# Altium footprint library SOP50P490X110-10L30N.PcbLib: 1 footprints
Each footprint in its own frame and in the unit in brackets; x right, y up, seen from the top. Pads: shape width x height; smd on the part's side, far side on the other; paste and mask are expansions set on the pad; w line width, h text height; cw(c..) or ccw(c..) is an arc to the next point about the centre after c.
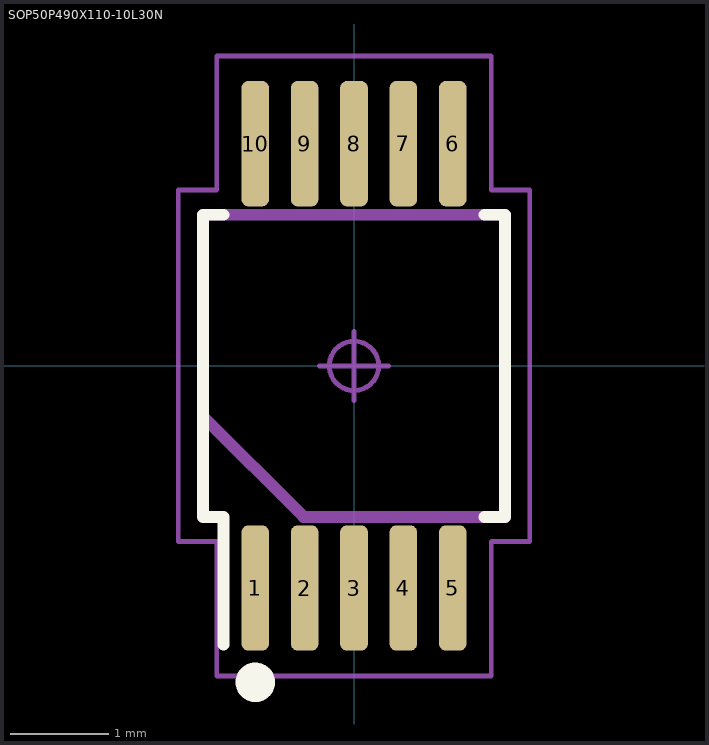
[diagram p0: the footprint, top view; thin cyan lines are the x and y axes]

## SOP50P490X110-10L30N [mm] "Small Outline Pkg (SOP), 0.50 mm pitch; 10 pin, 3.00 mm L X 3.00 mm W X 1.10 mm H body"
height 1.1
pads (10):
  rrect50% 0.28x1.27 smd: 1(-1,-2.25) 2(-0.5,-2.25) 3(0,-2.25) 4(0.5,-2.25) 5(1,-2.25) 6(1,2.25) 7(0.5,2.25) 8(0,2.25) 9(-0.5,2.25) 10(-1,2.25)
Top Overlay:
  circle w0.2: c-1,-3.205 r0.1
  lines w0.12: -1.32,-2.825 -1.32,-1.53 -1.53,-1.53 -1.53,1.53 -1.32,1.53 ; 1.32,-1.53 1.53,-1.53 1.53,1.53 1.32,1.53
Mechanical 11:
  lines w0.12: -1.53,-0.51 -1.53,1.53 1.53,1.53 1.53,-1.53 -0.51,-1.53 -1.53,-0.51
Mechanical 15:
  circle w0.05: c0,0 r0.25
  lines w0.05: -0.35,0 0.35,0 ; 0,-0.35 0,0.35 ; -1.78,-1.78 -1.78,1.78 -1.39,1.78 -1.39,3.14 1.39,3.14 1.39,1.78 1.78,1.78 1.78,-1.78 1.39,-1.78 1.39,-3.14 -1.39,-3.14 -1.39,-1.78 -1.78,-1.78
3D body: height 1.15, standoff 0, extent -1.5,-2.45 1.5,2.45